# EAGLE library part MIMXRT1052DVJ6B (library MIMXRT1052DVJ6B)
Processors - Application Specialized i.MXRT1050 MPU,ARM Cortex-M7 core,600Mhz,Commercial Grade for general purpose-with LCD/CSI/PXP,CANx2 Source: Datasheet <http://www.nxp.com/docs/en/data-sheet/IMXRT1050CEC.pdf>
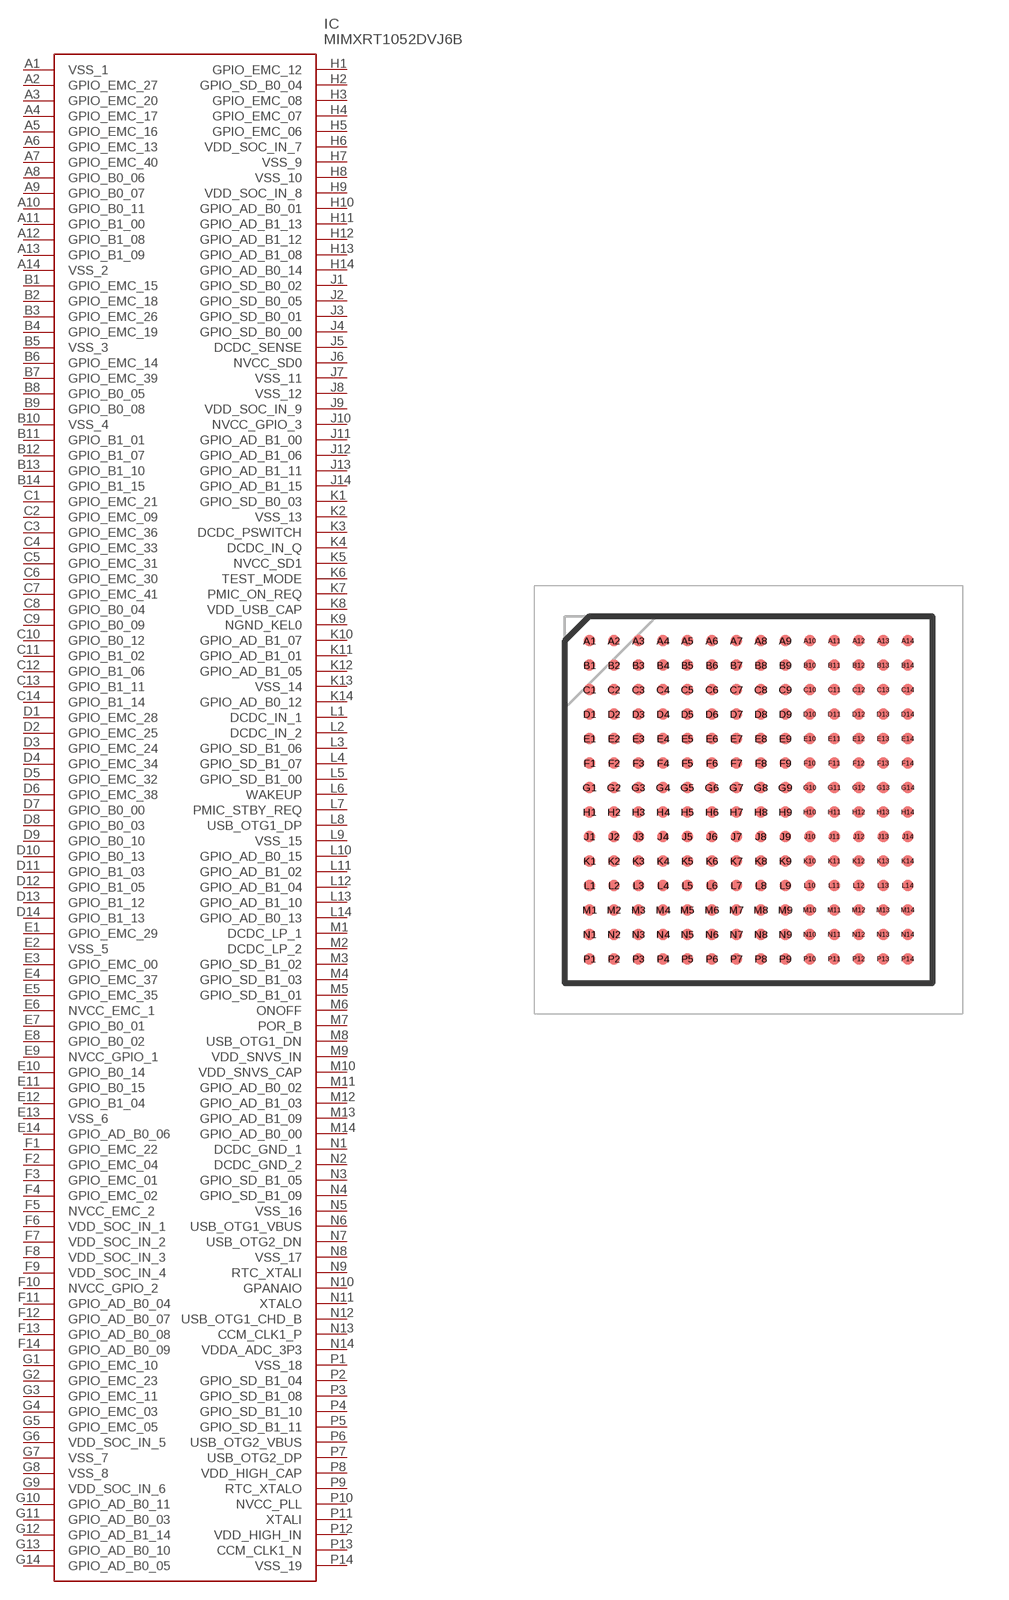
[diagram p0: symbol with the pads of BGA196C80P14X14_1200X1200X161; footprint BGA196C80P14X14_1200X1200X161]

Designator prefix IC

## MIMXRT1052DVJ6B (Description: Processors - Application Specialized i.MXRT1050 MPU,ARM Cortex-M7 core,600Mhz,Commercial Grade for general purpose-with LCD/CSI/PXP,CANx2; Height: 1.61mm; Manufacturer_Name: NXP; Manufacturer_Part_Number: MIMXRT1052DVJ6B; Mouser_Part_Number: 771-MIMXRT1052DVJ6B; Mouser_Price-Stock: https://www.mouser.co.uk/ProductDetail/NXP-Semiconductors/MIMXRT1052DVJ6B?qs=w%2Fv1CP2dgqpMhdUooMo9%252BQ%3D%3D)  [BGA196C80P14X14_1200X1200X161]
A1  VSS_1
A2  GPIO_EMC_27
A3  GPIO_EMC_20
A4  GPIO_EMC_17
A5  GPIO_EMC_16
A6  GPIO_EMC_13
A7  GPIO_EMC_40
A8  GPIO_B0_06
A9  GPIO_B0_07
A10  GPIO_B0_11
A11  GPIO_B1_00
A12  GPIO_B1_08
A13  GPIO_B1_09
A14  VSS_2
B1  GPIO_EMC_15
B2  GPIO_EMC_18
B3  GPIO_EMC_26
B4  GPIO_EMC_19
B5  VSS_3
B6  GPIO_EMC_14
B7  GPIO_EMC_39
B8  GPIO_B0_05
B9  GPIO_B0_08
B10  VSS_4
B11  GPIO_B1_01
B12  GPIO_B1_07
B13  GPIO_B1_10
B14  GPIO_B1_15
C1  GPIO_EMC_21
C2  GPIO_EMC_09
C3  GPIO_EMC_36
C4  GPIO_EMC_33
C5  GPIO_EMC_31
C6  GPIO_EMC_30
C7  GPIO_EMC_41
C8  GPIO_B0_04
C9  GPIO_B0_09
C10  GPIO_B0_12
C11  GPIO_B1_02
C12  GPIO_B1_06
C13  GPIO_B1_11
C14  GPIO_B1_14
D1  GPIO_EMC_28
D2  GPIO_EMC_25
D3  GPIO_EMC_24
D4  GPIO_EMC_34
D5  GPIO_EMC_32
D6  GPIO_EMC_38
D7  GPIO_B0_00
D8  GPIO_B0_03
D9  GPIO_B0_10
D10  GPIO_B0_13
D11  GPIO_B1_03
D12  GPIO_B1_05
D13  GPIO_B1_12
D14  GPIO_B1_13
E1  GPIO_EMC_29
E2  VSS_5
E3  GPIO_EMC_00
E4  GPIO_EMC_37
E5  GPIO_EMC_35
E6  NVCC_EMC_1
E7  GPIO_B0_01
E8  GPIO_B0_02
E9  NVCC_GPIO_1
E10  GPIO_B0_14
E11  GPIO_B0_15
E12  GPIO_B1_04
E13  VSS_6
E14  GPIO_AD_B0_06
F1  GPIO_EMC_22
F2  GPIO_EMC_04
F3  GPIO_EMC_01
F4  GPIO_EMC_02
F5  NVCC_EMC_2
F6  VDD_SOC_IN_1
F7  VDD_SOC_IN_2
F8  VDD_SOC_IN_3
F9  VDD_SOC_IN_4
F10  NVCC_GPIO_2
F11  GPIO_AD_B0_04
F12  GPIO_AD_B0_07
F13  GPIO_AD_B0_08
F14  GPIO_AD_B0_09
G1  GPIO_EMC_10
G2  GPIO_EMC_23
G3  GPIO_EMC_11
G4  GPIO_EMC_03
G5  GPIO_EMC_05
G6  VDD_SOC_IN_5
G7  VSS_7
G8  VSS_8
G9  VDD_SOC_IN_6
G10  GPIO_AD_B0_11
G11  GPIO_AD_B0_03
G12  GPIO_AD_B1_14
G13  GPIO_AD_B0_10
G14  GPIO_AD_B0_05
H1  GPIO_EMC_12
H2  GPIO_SD_B0_04
H3  GPIO_EMC_08
H4  GPIO_EMC_07
H5  GPIO_EMC_06
H6  VDD_SOC_IN_7
H7  VSS_9
H8  VSS_10
H9  VDD_SOC_IN_8
H10  GPIO_AD_B0_01
H11  GPIO_AD_B1_13
H12  GPIO_AD_B1_12
H13  GPIO_AD_B1_08
H14  GPIO_AD_B0_14
J1  GPIO_SD_B0_02
J2  GPIO_SD_B0_05
J3  GPIO_SD_B0_01
J4  GPIO_SD_B0_00
J5  DCDC_SENSE
J6  NVCC_SD0
J7  VSS_11
J8  VSS_12
J9  VDD_SOC_IN_9
J10  NVCC_GPIO_3
J11  GPIO_AD_B1_00
J12  GPIO_AD_B1_06
J13  GPIO_AD_B1_11
J14  GPIO_AD_B1_15
K1  GPIO_SD_B0_03
K2  VSS_13
K3  DCDC_PSWITCH
K4  DCDC_IN_Q
K5  NVCC_SD1
K6  TEST_MODE
K7  PMIC_ON_REQ
K8  VDD_USB_CAP
K9  NGND_KEL0
K10  GPIO_AD_B1_07
K11  GPIO_AD_B1_01
K12  GPIO_AD_B1_05
K13  VSS_14
K14  GPIO_AD_B0_12
L1  DCDC_IN_1
L2  DCDC_IN_2
L3  GPIO_SD_B1_06
L4  GPIO_SD_B1_07
L5  GPIO_SD_B1_00
L6  WAKEUP
L7  PMIC_STBY_REQ
L8  USB_OTG1_DP
L9  VSS_15
L10  GPIO_AD_B0_15
L11  GPIO_AD_B1_02
L12  GPIO_AD_B1_04
L13  GPIO_AD_B1_10
L14  GPIO_AD_B0_13
M1  DCDC_LP_1
M2  DCDC_LP_2
M3  GPIO_SD_B1_02
M4  GPIO_SD_B1_03
M5  GPIO_SD_B1_01
M6  ONOFF
M7  POR_B
M8  USB_OTG1_DN
M9  VDD_SNVS_IN
M10  VDD_SNVS_CAP
M11  GPIO_AD_B0_02
M12  GPIO_AD_B1_03
M13  GPIO_AD_B1_09
M14  GPIO_AD_B0_00
N1  DCDC_GND_1
N2  DCDC_GND_2
N3  GPIO_SD_B1_05
N4  GPIO_SD_B1_09
N5  VSS_16
N6  USB_OTG1_VBUS
N7  USB_OTG2_DN
N8  VSS_17
N9  RTC_XTALI
N10  GPANAIO
N11  XTALO
N12  USB_OTG1_CHD_B
N13  CCM_CLK1_P
N14  VDDA_ADC_3P3
P1  VSS_18
P2  GPIO_SD_B1_04
P3  GPIO_SD_B1_08
P4  GPIO_SD_B1_10
P5  GPIO_SD_B1_11
P6  USB_OTG2_VBUS
P7  USB_OTG2_DP
P8  VDD_HIGH_CAP
P9  RTC_XTALO
P10  NVCC_PLL
P11  XTALI
P12  VDD_HIGH_IN
P13  CCM_CLK1_N
P14  VSS_19

## Footprint BGA196C80P14X14_1200X1200X161 (pad centres in mm)
12 x 12 mm MAPBGA package
smd 0.37 x 0.37: A1 -5.2,5.2; A2 -4.4,5.2; A3 -3.6,5.2; A4 -2.8,5.2; A5 -2,5.2; A6 -1.2,5.2; A7 -0.4,5.2; A8 0.4,5.2; A9 1.2,5.2; A10 2,5.2; A11 2.8,5.2; A12 3.6,5.2; A13 4.4,5.2; A14 5.2,5.2; B1 -5.2,4.4; B2 -4.4,4.4; B3 -3.6,4.4; B4 -2.8,4.4; B5 -2,4.4; B6 -1.2,4.4; B7 -0.4,4.4; B8 0.4,4.4; B9 1.2,4.4; B10 2,4.4; B11 2.8,4.4; B12 3.6,4.4; B13 4.4,4.4; B14 5.2,4.4; C1 -5.2,3.6; C2 -4.4,3.6; C3 -3.6,3.6; C4 -2.8,3.6; C5 -2,3.6; C6 -1.2,3.6; C7 -0.4,3.6; C8 0.4,3.6; C9 1.2,3.6; C10 2,3.6; C11 2.8,3.6; C12 3.6,3.6; C13 4.4,3.6; C14 5.2,3.6; D1 -5.2,2.8; D2 -4.4,2.8; D3 -3.6,2.8; D4 -2.8,2.8; D5 -2,2.8; D6 -1.2,2.8; D7 -0.4,2.8; D8 0.4,2.8; D9 1.2,2.8; D10 2,2.8; D11 2.8,2.8; D12 3.6,2.8; D13 4.4,2.8; D14 5.2,2.8; E1 -5.2,2; E2 -4.4,2; E3 -3.6,2; E4 -2.8,2; E5 -2,2; E6 -1.2,2; E7 -0.4,2; E8 0.4,2; E9 1.2,2; E10 2,2; E11 2.8,2; E12 3.6,2; E13 4.4,2; E14 5.2,2; F1 -5.2,1.2; F2 -4.4,1.2; F3 -3.6,1.2; F4 -2.8,1.2; F5 -2,1.2; F6 -1.2,1.2; F7 -0.4,1.2; F8 0.4,1.2; F9 1.2,1.2; F10 2,1.2; F11 2.8,1.2; F12 3.6,1.2; F13 4.4,1.2; F14 5.2,1.2; G1 -5.2,0.4; G2 -4.4,0.4; G3 -3.6,0.4; G4 -2.8,0.4; G5 -2,0.4; G6 -1.2,0.4; G7 -0.4,0.4; G8 0.4,0.4; G9 1.2,0.4; G10 2,0.4; G11 2.8,0.4; G12 3.6,0.4; G13 4.4,0.4; G14 5.2,0.4; H1 -5.2,-0.4; H2 -4.4,-0.4; H3 -3.6,-0.4; H4 -2.8,-0.4; H5 -2,-0.4; H6 -1.2,-0.4; H7 -0.4,-0.4; H8 0.4,-0.4; H9 1.2,-0.4; H10 2,-0.4; H11 2.8,-0.4; H12 3.6,-0.4; H13 4.4,-0.4; H14 5.2,-0.4; J1 -5.2,-1.2; J2 -4.4,-1.2; J3 -3.6,-1.2; J4 -2.8,-1.2; J5 -2,-1.2; J6 -1.2,-1.2; J7 -0.4,-1.2; J8 0.4,-1.2; J9 1.2,-1.2; J10 2,-1.2; J11 2.8,-1.2; J12 3.6,-1.2; J13 4.4,-1.2; J14 5.2,-1.2; K1 -5.2,-2; K2 -4.4,-2; K3 -3.6,-2; K4 -2.8,-2; K5 -2,-2; K6 -1.2,-2; K7 -0.4,-2; K8 0.4,-2; K9 1.2,-2; K10 2,-2; K11 2.8,-2; K12 3.6,-2; K13 4.4,-2; K14 5.2,-2; L1 -5.2,-2.8; L2 -4.4,-2.8; L3 -3.6,-2.8; L4 -2.8,-2.8; L5 -2,-2.8; L6 -1.2,-2.8; L7 -0.4,-2.8; L8 0.4,-2.8; L9 1.2,-2.8; L10 2,-2.8; L11 2.8,-2.8; L12 3.6,-2.8; L13 4.4,-2.8; L14 5.2,-2.8; M1 -5.2,-3.6; M2 -4.4,-3.6; M3 -3.6,-3.6; M4 -2.8,-3.6; M5 -2,-3.6; M6 -1.2,-3.6; M7 -0.4,-3.6; M8 0.4,-3.6; M9 1.2,-3.6; M10 2,-3.6; M11 2.8,-3.6; M12 3.6,-3.6; M13 4.4,-3.6; M14 5.2,-3.6; N1 -5.2,-4.4; N2 -4.4,-4.4; N3 -3.6,-4.4; N4 -2.8,-4.4; N5 -2,-4.4; N6 -1.2,-4.4; N7 -0.4,-4.4; N8 0.4,-4.4; N9 1.2,-4.4; N10 2,-4.4; N11 2.8,-4.4; N12 3.6,-4.4; N13 4.4,-4.4; N14 5.2,-4.4; P1 -5.2,-5.2; P2 -4.4,-5.2; P3 -3.6,-5.2; P4 -2.8,-5.2; P5 -2,-5.2; P6 -1.2,-5.2; P7 -0.4,-5.2; P8 0.4,-5.2; P9 1.2,-5.2; P10 2,-5.2; P11 2.8,-5.2; P12 3.6,-5.2; P13 4.4,-5.2; P14 5.2,-5.2